# Altium integrated library USB3131-30-0230-X_revB.IntLib: 1 symbol
Pins are listed as number, name and electrical type; pins without a type are passive.

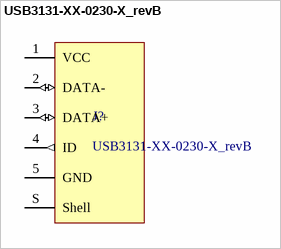
[diagram p0: symbol USB3131-XX-0230-X_revB]

## USB3131-XX-0230-X_revB
designator J?
Micro USB Receptacle, Type B, Through-Hole, Vertical, with 2.3mm Shell Stakes
footprint USB3131-XX-0230-X_revB (Micro USB Receptacle, Type B, Through-Hole, Vertical, with 2.3mm Shell Stakes)
pins: 1 VCC (power), 2 DATA- (io), 3 DATA+ (io), 4 ID (out), 5 GND (power), S Shell (power)